# Altium integrated library TLV76733DRVR.IntLib: 1 symbol
Pins are listed as number, name and electrical type; pins without a type are passive.

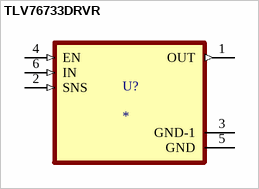
[diagram p0: symbol TLV76733DRVR]

## TLV76733DRVR
designator U?
Adjustable- and fixed-output, 1-A, 16-V, positive-voltage low-dropout (LDO) linear regulator; MF: Texas Instruments; MP: TLV76733DRVR; SnapEDA_Link: https://www.snapeda.com/parts/TLV76733DRVR/Texas+Instruments/view-part/?ref=snap; Package: WSON-6 Texas Instruments; Value: *; Check_prices: https://www.snapeda.com/parts/TLV76733DRVR/Texas+Instruments/view-part/?ref=eda
footprint SON65P200X200X80-7N
pins: 1 OUT (out), 2 SNS (in), 3 GND-1 (power), 4 EN (in), 5 GND (power), 6 IN (in)